# Altium footprint library PcbLib1.PcbLib: 2 footprints
Each footprint in its own frame and in the unit in brackets; x right, y up, seen from the top. Pads: shape width x height; smd on the part's side, far side on the other; paste and mask are expansions set on the pad; w line width, h text height; cw(c..) or ccw(c..) is an arc to the next point about the centre after c.
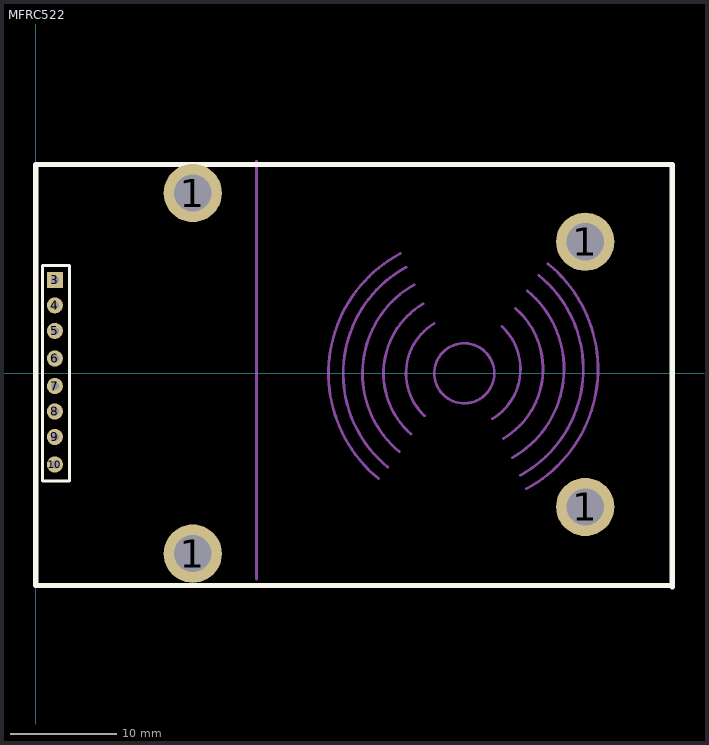
[diagram p0: the footprints below, top view; thin cyan lines are the x and y axes]

## MFRC522 [mm]
pads (12):
  round 5.5 hole 3.5: 1(14.8,-17) 1(14.8,17) 1(51.8,-12.6) 1(51.8,12.4)
  rect 1.524x1.524 hole 0.762: 3(1.8,8.8)
  round 1.524 hole 0.762: 4(1.8,6.4) 5(1.8,4) 6(1.8,1.4) 7(1.8,-1.2) 8(1.8,-3.6) 9(1.8,-6) 10(1.8,-8.6)
Top Overlay:
  lines w0.254: 0.635,-10.16 0.635,10.16 3.175,10.16 3.175,-10.16 0.635,-10.16
  lines w0.5: 59.87,-20 59.055,-20 0,-20 0,19.685 60,19.685 60,-20.13
Mechanical 1:
  circle w0.254: c40.4,0 r2.828
  lines w0.254: 20.8,-19.4 20.8,20 ; 32.302,-9.921 cw(c40.4,0) 34.363,11.294 ; 33.171,-8.835 cw(c40.4,0) 34.906,10.007 ; 34.253,-7.377 cw(c40.4,0) 35.682,8.363 ; 35.369,-5.717 cw(c40.4,0) 36.512,6.548 ; 36.653,-4.015 cw(c40.4,0) 37.545,4.691 ; 43.055,-4.291 ccw(c40.2,0.4) 43.947,4.415 ; 44.088,-6.148 ccw(c40.2,0.4) 45.231,6.117 ; 44.918,-7.963 ccw(c40.2,0.4) 46.347,7.777 ; 45.694,-9.607 ccw(c40.2,0.4) 47.429,9.235 ; 46.237,-10.894 ccw(c40.2,0.4) 48.298,10.321
  text "MFRC522" at 5.854,3.146 h1.52
  text "MFRC522" at 34.254,-15.546 h1.52
3D body "RFID-RC522 simple.SLDPRT": height 5, standoff -1, extent 0.4,-19.7 59.9,19.3

## PCBComponent_1 - duplicate [mm]